# Altium footprint library 452005691#NIBP涡轮驱动板V2.00.PcbLib: 73 footprints (part 3 of 5)
Each footprint in its own frame and in the unit in brackets; x right, y up, seen from the top. Pads: shape width x height; smd on the part's side, far side on the other; paste and mask are expansions set on the pad; w line width, h text height; cw(c..) or ccw(c..) is an arc to the next point about the centre after c.
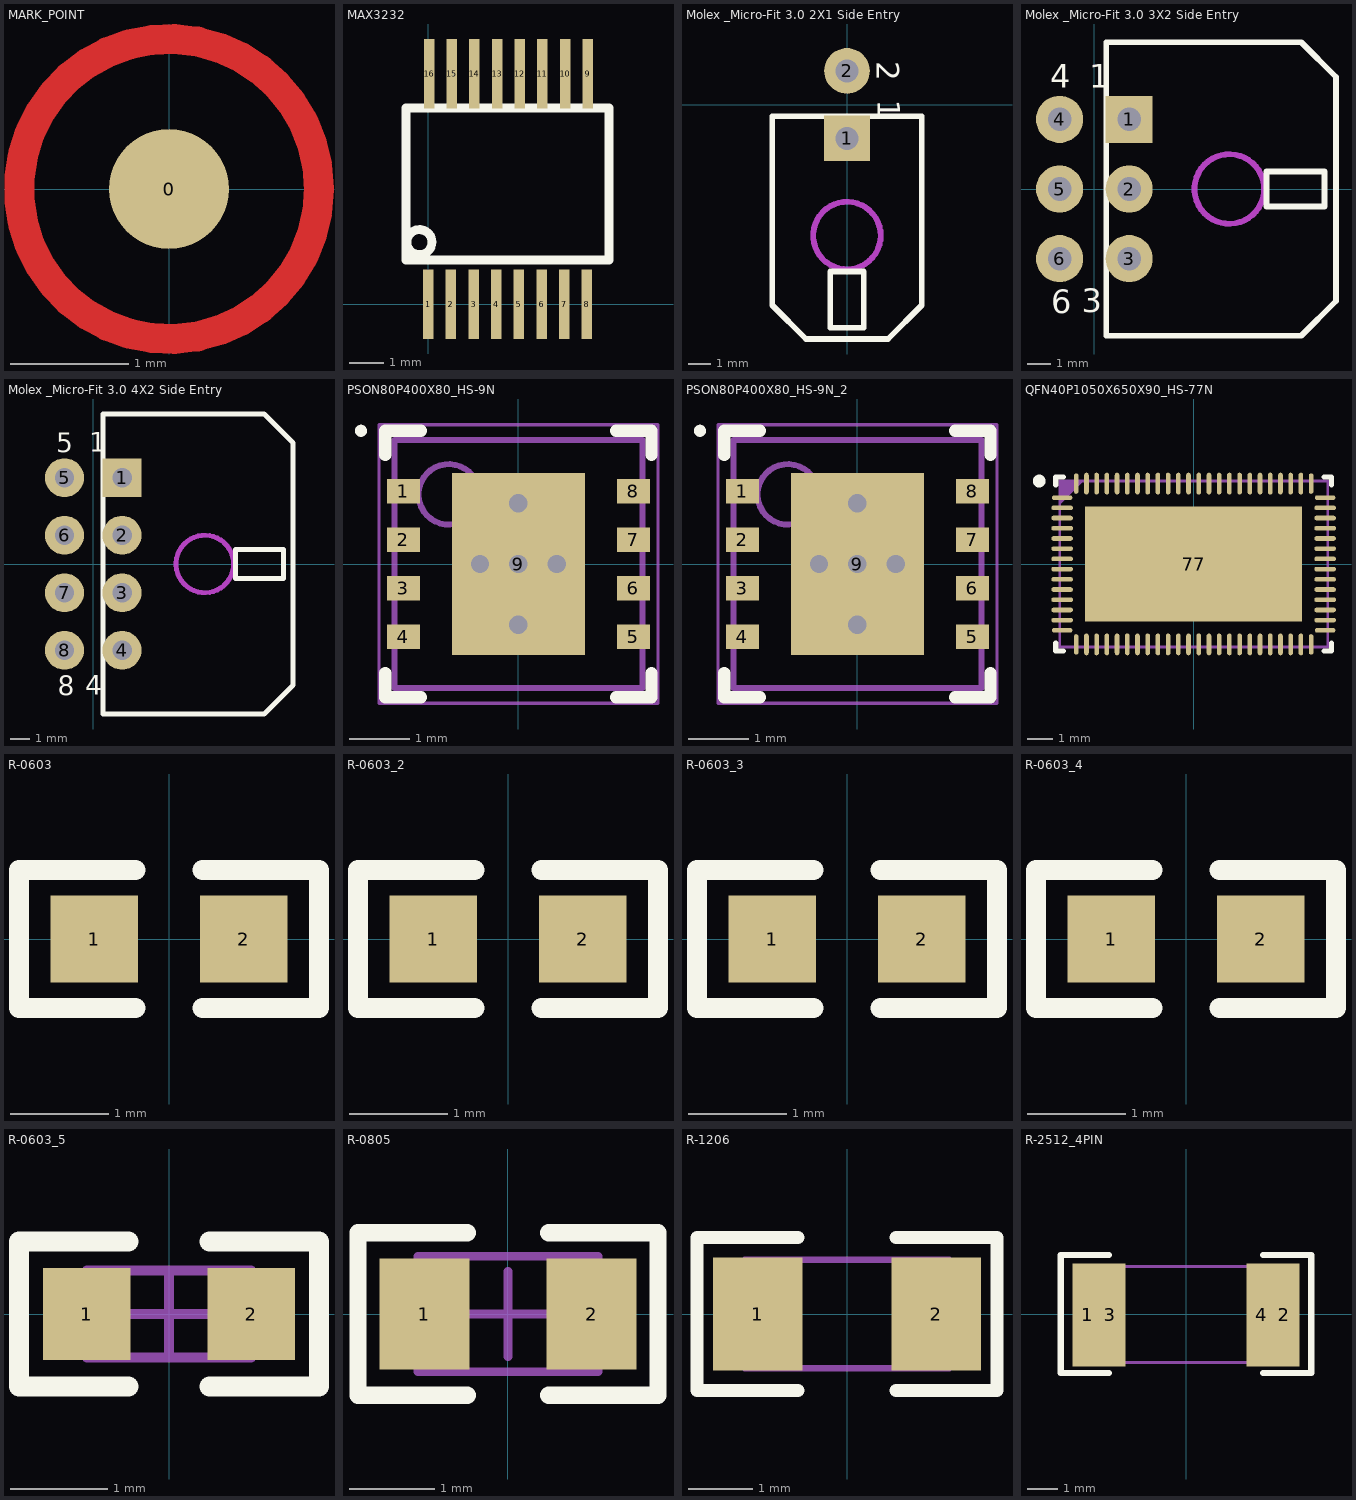
[diagram p2: the footprints below, top view; thin cyan lines are the x and y axes]

## MARK_POINT [mil]
height 236.22
pads (1):
  round 40 smd: 0(0,0)
Top Layer:
  circle w10: c0,0 r50
Top Solder:
  circle w20: c0,0 r30

## MAX3232 [mm]
height 4.14
pads (16):
  rect 0.3x2 smd: 1(0,0) 2(0.65,0) 3(1.3,0) 4(1.95,0) 5(2.6,0) 6(3.25,0) 7(3.9,0) 8(4.55,0) 9(4.572,6.604) 10(3.922,6.604) 11(3.272,6.604) 12(2.622,6.604) 13(1.972,6.604) 14(1.322,6.604) 15(0.672,6.604) 16(0.022,6.604)
Top Overlay:
  circle w0.254: c-0.254,1.778 r0.359
  lines w0.254: -0.635,1.27 -0.635,5.63 5.185,5.63 5.185,1.27 -0.635,1.27

## Molex _Micro-Fit 3.0 2X1 Side Entry [mil]
height 393.7
pads (2):
  rect 80x80 hole 40: 1(0,-59.05)
  round 80 hole 40: 2(0,59.05)
Top Overlay:
  lines w10: -130.91,-351.14 -130.91,-20.16 130.91,-20.16 130.91,-351.14 71.89,-410.16 -71.89,-410.16 -130.91,-351.14 ; -29.53,-390.47 29.53,-390.47 29.53,-292.05 -29.53,-292.05 -29.53,-390.47
  text "2" at 52.17,75.52 h39.37
  text "1" at 53.64,8.67 h39.37
Keep-Out Layer:
  circle w10: c0,-229.06 r59.06
Mechanical 13:
  circle w10: c0,-229.06 r59.06

## Molex _Micro-Fit 3.0 3X2 Side Entry [mil]
pads (6):
  rect 80x80 hole 40: 1(59.05,118.11)
  round 80 hole 40: 2(59.05,0) 3(59.05,-118.11) 4(-59.05,118.11) 5(-59.05,0) 6(-59.05,-118.11)
Top Overlay:
  lines w10: 20.16,-249.02 351.14,-249.02 410.16,-190 410.16,190 351.14,249.02 20.16,249.02 20.16,-249.02 ; 292.05,-29.53 292.05,29.53 390.47,29.53 390.47,-29.53 292.05,-29.53
  text "3" at -21.8,-209.45 h39.37
  text "4" at -74.46,171.79 h39.37
  text "1" at -8.67,171.95 h39.37
  text "6" at -73.03,-210.66 h39.37
Keep-Out Layer:
  circle w10: c229.06,0 r59.06
Mechanical 13:
  circle w10: c229.06,0 r59.06
3D body "430450600.stp": height 345.87, standoff -124.61, extent -70.94,-257.72 410.94,260

## Molex _Micro-Fit 3.0 4X2 Side Entry [mil]
pads (8):
  rect 80x80 hole 40: 1(59.05,177.16)
  round 80 hole 40: 2(59.05,59.05) 3(59.05,-59.05) 4(59.05,-177.16) 5(-59.05,177.16) 6(-59.05,59.05) 7(-59.05,-59.05) 8(-59.05,-177.16)
Top Overlay:
  lines w10: 20.16,-308.07 351.14,-308.07 410.16,-249.06 410.16,249.06 351.14,308.07 20.16,308.07 20.16,-308.07 ; 292.05,-29.53 390.47,-29.53 390.47,29.53 292.05,29.53 292.05,-29.53
  text "8" at -73.03,-269.72 h39.37
  text "1" at -8.67,231.01 h39.37
  text "4" at -16.93,-268.75 h39.37
  text "5" at -76.39,229.51 h39.37
Keep-Out Layer:
  circle w10: c229.06,0 r59.06
Mechanical 13:
  circle w10: c229.06,0 r59.06

## PSON80P400X80_HS-9N [mm]
pads (9):
  rect 0.55x0.4 smd: 1(-1.9,1.2) 2(-1.9,0.4) 3(-1.9,-0.4) 4(-1.9,-1.2) 5(1.9,-1.2) 6(1.9,-0.4) 7(1.9,0.4) 8(1.9,1.2)
  rect 2.2x3 smd: 9(0,0)
via 0,1 diameter 0.6 hole 0.305
via -0.635,0 diameter 0.6 hole 0.305
via 0,0 diameter 0.6 hole 0.305
via 0.635,0 diameter 0.6 hole 0.305
via 0,-1 diameter 0.6 hole 0.305
Top Overlay:
  circle w0.1: c-2.6,2.2 r0.05
  lines w0.2: -2.2,-1.8 -2.2,-2.2 -1.61,-2.2 ; -2.2,1.8 -2.2,2.2 -1.61,2.2 ; 1.61,-2.2 2.2,-2.2 2.2,-1.8 ; 1.61,2.2 2.2,2.2 2.2,1.8
Top Paste:
  rectangle: -1.016,0.1 -0.1,1.4
  rectangle: -1.016,-1.4 -0.1,-0.1
  rectangle: 0.1,0.1 1.016,1.4
  rectangle: 0.1,-1.4 1.016,-0.1
Mechanical 13:
  circle w0.1: c-1.15,1.15 r0.5
  lines w0.1: -2.05,-2.05 -2.05,2.05 2.05,2.05 2.05,-2.05 -2.05,-2.05
Mechanical 15:
  lines w0.05: -2.305,-2.3 -2.305,2.3 2.305,2.3 2.305,-2.3 -2.305,-2.3
  lines w0.1: -0.5,0 0.5,0 ; 0,-0.5 0,0.5
3D body "PSON80P400X80_HS-9N.step": height 0.8, standoff 0, extent -2.051,-2.05 2.051,2.05

## PSON80P400X80_HS-9N_2 [mm]
pads (9):
  rect 0.55x0.4 smd: 1(-1.9,1.2) 2(-1.9,0.4) 3(-1.9,-0.4) 4(-1.9,-1.2) 5(1.9,-1.2) 6(1.9,-0.4) 7(1.9,0.4) 8(1.9,1.2)
  rect 2.2x3 smd: 9(0,0)
via 0,-1 diameter 0.6 hole 0.305
via 0.635,0 diameter 0.6 hole 0.305
via 0,0 diameter 0.6 hole 0.305
via -0.635,0 diameter 0.6 hole 0.305
via 0,1 diameter 0.6 hole 0.305
Top Overlay:
  circle w0.1: c-2.6,2.2 r0.05
  lines w0.2: -2.2,-1.8 -2.2,-2.2 -1.61,-2.2 ; -2.2,1.8 -2.2,2.2 -1.61,2.2 ; 1.61,-2.2 2.2,-2.2 2.2,-1.8 ; 1.61,2.2 2.2,2.2 2.2,1.8
Top Paste:
  rectangle: 0.1,-1.4 1.016,-0.1
  rectangle: 0.1,0.1 1.016,1.4
  rectangle: -1.016,-1.4 -0.1,-0.1
  rectangle: -1.016,0.1 -0.1,1.4
Mechanical 13:
  circle w0.1: c-1.15,1.15 r0.5
  lines w0.1: -2.05,-2.05 2.05,-2.05 2.05,2.05 -2.05,2.05 -2.05,-2.05
Mechanical 15:
  lines w0.05: -2.305,-2.3 2.305,-2.3 2.305,2.3 -2.305,2.3 -2.305,-2.3
  lines w0.1: -0.5,0 0.5,0 ; 0,-0.5 0,0.5
3D body "PSON80P400X80_HS-9N.step": height 0.8, standoff 0, extent -2.051,-2.05 2.051,2.05

## QFN40P1050X650X90_HS-77N [mm] "QFN, 76-Leads, Body 10,50x6,50mm, Pitch 0,40mm, Thermal Pad 9,00x5,00mm, IPC Medium Density"
height 0.9
pads (77):
  oval 0.8x0.182 smd mask+0.051: 1(-5.15,2.6) 14(-5.15,-2.6) 39(5.15,-2.6) 52(5.15,2.6)
  oval 0.85x0.182 smd mask+0.051: 2(-5.15,2.2) 3(-5.15,1.8) 4(-5.15,1.4) 5(-5.15,1) 6(-5.15,0.6) 7(-5.15,0.2) 8(-5.15,-0.2) 9(-5.15,-0.6) 10(-5.15,-1) 11(-5.15,-1.4) 12(-5.15,-1.8) 13(-5.15,-2.2) 40(5.15,-2.2) 41(5.15,-1.8) 42(5.15,-1.4) 43(5.15,-1) 44(5.15,-0.6) 45(5.15,-0.2) 46(5.15,0.2) 47(5.15,0.6) 48(5.15,1) 49(5.15,1.4) 50(5.15,1.8) 51(5.15,2.2)
  oval 0.182x0.8 smd mask+0.051: 15(-4.6,-3.15) 38(4.6,-3.15) 53(4.6,3.15) 76(-4.6,3.15)
  oval 0.182x0.85 smd mask+0.051: 16(-4.2,-3.15) 17(-3.8,-3.15) 18(-3.4,-3.15) 19(-3,-3.15) 20(-2.6,-3.15) 21(-2.2,-3.15) 22(-1.8,-3.15) 23(-1.4,-3.15) 24(-1,-3.15) 25(-0.6,-3.15) 26(-0.2,-3.15) 27(0.2,-3.15) 28(0.6,-3.15) 29(1,-3.15) 30(1.4,-3.15) 31(1.8,-3.15) 32(2.2,-3.15) 33(2.6,-3.15) 34(3,-3.15) 35(3.4,-3.15) 36(3.8,-3.15) 37(4.2,-3.15) 54(4.2,3.15) 55(3.8,3.15) 56(3.4,3.15) 57(3,3.15) 58(2.6,3.15) 59(2.2,3.15) 60(1.8,3.15) 61(1.4,3.15) 62(1,3.15) 63(0.6,3.15) 64(0.2,3.15) 65(-0.2,3.15) 66(-0.6,3.15) 67(-1,3.15) 68(-1.4,3.15) 69(-1.8,3.15) 70(-2.2,3.15) 71(-2.6,3.15) 72(-3,3.15) 73(-3.4,3.15) 74(-3.8,3.15) 75(-4.2,3.15)
  rect 8.5x4.5 smd: 77(0,0)
Top Overlay:
  circle w0.25: c-6.05,3.25 r0.125
  lines w0.2: -5.4,-3.1 -5.4,-3.4 -5.1,-3.4 ; -5.4,3.1 -5.4,3.4 -5.1,3.4 ; 5.1,-3.4 5.4,-3.4 5.4,-3.1 ; 5.1,3.4 5.4,3.4 5.4,3.1
Mechanical 16:
  region: -5.25,3.25 -5.25,2.318 -4.318,3.25
  lines w0.1: -5.25,-3.25 5.25,-3.25 5.25,3.25 -5.25,3.25 -5.25,-3.25
3D body "QFN40P1050X650X90_HS-77N.step": height 0.9, standoff 0, extent -5.251,-3.251 5.251,3.251

## R-0603 [mil]
pads (2):
  rect 35x35 smd: 1(-30,0) 2(30,0)
Top Overlay:
  lines w8: -13.36,-27.56 -60,-27.56 -60,27.56 -13.36,27.56 ; 13.36,-27.56 60,-27.56 60,27.56 13.36,27.56

## R-0603_2 [mil]
pads (2):
  rect 35x35 smd: 1(-30,0) 2(30,0)
Top Overlay:
  lines w8: -13.36,-27.56 -60,-27.56 -60,27.56 -13.36,27.56 ; 13.36,-27.56 60,-27.56 60,27.56 13.36,27.56

## R-0603_3 [mil]
pads (2):
  rect 35x35 smd: 1(-30,0) 2(30,0)
Top Overlay:
  lines w8: -13.36,-27.56 -60,-27.56 -60,27.56 -13.36,27.56 ; 13.36,-27.56 60,-27.56 60,27.56 13.36,27.56

## R-0603_4 [mil]
pads (2):
  rect 35x35 smd: 1(-30,0) 2(30,0)
Top Overlay:
  lines w8: -13.36,-27.56 -60,-27.56 -60,27.56 -13.36,27.56 ; 13.36,-27.56 60,-27.56 60,27.56 13.36,27.56

## R-0603_5 [mm]
pads (2):
  rect 0.9x0.95 smd: 1(-0.85,0) 2(0.85,0)
Top Overlay:
  lines w0.203: -0.418,-0.75 -1.55,-0.75 -1.55,0.75 -0.418,0.75 ; 0.418,-0.75 1.55,-0.75 1.55,0.75 0.418,0.75
Mechanical 13:
  lines w0.1: -0.85,-0.45 0.85,-0.45 0.85,0.45 -0.85,0.45 -0.85,-0.45
Mechanical 15:
  lines w0.1: -0.45,0 0.45,0 ; 0,-0.45 0,0.45
3D body: height 0.45, standoff 0, extent 0.6,-0.45 0.85,0.45
3D body: height 0.45, standoff 0, extent -0.85,-0.45 -0.6,0.45
3D body: height 0.45, standoff 0, extent -0.6,-0.45 0.6,0.45

## R-0805 [mm] "Chip Resistor, 2-Leads, Body 2.00x1.25mm, IPC Medium Density"
height 0.5
pads (2):
  rect 1.05x1.3 smd: 1(-0.975,0) 2(0.975,0)
Top Overlay:
  lines w0.203: -0.477,-0.95 -1.75,-0.95 -1.75,0.95 -0.477,0.95 ; 0.477,-0.95 1.75,-0.95 1.75,0.95 0.477,0.95
Mechanical 13:
  lines w0.1: -1.05,-0.675 1.05,-0.675 1.05,0.675 -1.05,0.675 -1.05,-0.675
Mechanical 15:
  lines w0.1: -0.5,0 0.5,0 ; 0,-0.5 0,0.5
3D body: height 0.5, standoff 0, extent 0.7,-0.675 1.05,0.675
3D body: height 0.5, standoff 0, extent -1.05,-0.675 -0.7,0.675
3D body: height 0.5, standoff 0, extent -0.7,-0.675 0.7,0.675

## R-1206 [mil]
pads (2):
  rect 55x70 smd: 1(-55,0) 2(55,0)
Top Overlay:
  lines w8: -30.21,-47.24 -92.52,-47.24 -92.52,47.24 -30.21,47.24 ; 30.21,-47.24 92.52,-47.24 92.52,47.24 30.21,47.24
Mechanical 13:
  lines w3.94: -62.99,-33.46 62.99,-33.46 62.99,33.46 -62.99,33.46 -62.99,-33.46
3D body: height 21.65, standoff 0, extent 45.28,-33.46 62.99,33.46
3D body: height 21.65, standoff 0, extent -62.99,-33.46 -45.28,33.46
3D body: height 21.65, standoff 0, extent -45.28,-33.46 45.28,33.46

## R-2512_4PIN [mm]
pads (4):
  rect 1x3.4 smd: 1(-3.25,-0.025) 2(3.25,-0.025) 3(-2.5,-0.025) 4(2.5,-0.025)
Top Overlay:
  lines w0.203: -2.54,-1.95 -4.135,-1.95 -4.135,1.95 -2.54,1.95 ; 2.54,-1.95 4.135,-1.95 4.135,1.95 2.54,1.95
Mechanical 15:
  lines w0.1: -3.2,-1.6 -3.2,1.575 3.2,1.575 3.2,-1.6 -3.2,-1.6